# Altium schematic symbol library 20021121-00010C4LF.SchLib: 1 symbol
Pins are listed as number, name and electrical type; pins without a type are passive.

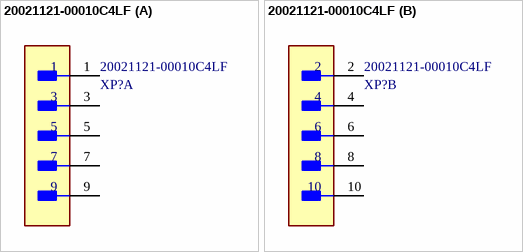
[diagram p0: symbol 20021121-00010C4LF]

## 20021121-00010C4LF
designator XP?
20021121-00010C4LF Conn Unshrouded Header HDR 10 POS 1.27mm Solder ST Top Entry SMD Minitek127® T/R; NexarPartId: 126517171; Current Rating: 1A; Voltage Rating: 125V; Number of Contacts: 10; Connector Type: Header, Male Pin; Mating Post Length: 3.05mm; Insulation Resistance: 100MΩ; Gender: Male; Contact Resistance: 30mΩ; Stack Height: 3mm; Contact Material: Copper, Gold; Housing Material: Thermoplastic; Number of Pins: 10; Length: 6.35mm; Housing Color: Black; RoHS: Compliant; Max Operating Temperature: 85°C; Min Operating Temperature: -55°C; Mount: Surface Mount; Row Spacing: 1.27mm; Contact Mating Length: 3.048mm; Max Voltage Rating (AC): 125V; Color: Black; Number of Rows: 2; Orientation: Straight; Contact Plating: Gold; Depth: 3.4mm; Pitch: 1.27mm; Height: 4.8mm; Termination: Solder; Radiation Hardening: No; Number of Positions: 10; REACH SVHC: No SVHC
footprint FP-20021121-00010C4LF-MFG
part A pins: 1, 3, 5, 7, 9
part B pins: 2, 4, 6, 8, 10